# EAGLE library part WE-TVS-SS_824014885 (library Bauteile)
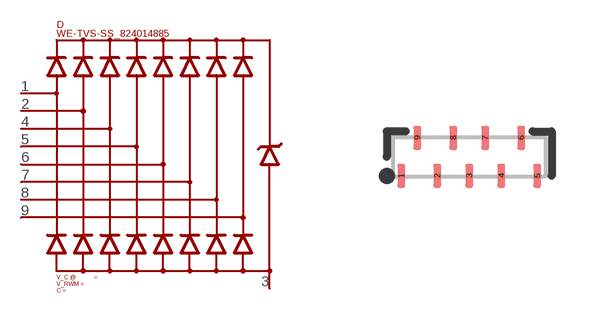
[diagram p217: symbol with the pads of DFN3810-9L; footprint DFN3810-9L]

Designator prefix D

## WE-TVS-SS_824014885 (C: 0.65pF; ID: 824014885; I_C: 16A; VALUE: 824014885; V_C: 10.5V; V_RWM: 5V)  [DFN3810-9L]
1  I/O_1
2  I/O_2
3  GND
4  I/O_3
5  I/O_4
6  I/O_5
7  I/O_6
8  I/O_7
9  I/O_8

## Footprint DFN3810-9L (pad centres in mm)
smd 0.2 x 0.6: 1 -1.7,-0.475; 2 -0.8,-0.475; 3 0,-0.475; 4 0.8,-0.475; 5 1.7,-0.475; 6 1.3,0.475; 7 0.4,0.475; 8 -0.4,0.475; 9 -1.3,0.475